# Altium footprint library Mechanical Components.PcbLib: 46 footprints (part 1 of 3)
Each footprint in its own frame and in the unit in brackets; x right, y up, seen from the top. Pads: shape width x height; smd on the part's side, far side on the other; paste and mask are expansions set on the pad; w line width, h text height; cw(c..) or ccw(c..) is an arc to the next point about the centre after c.
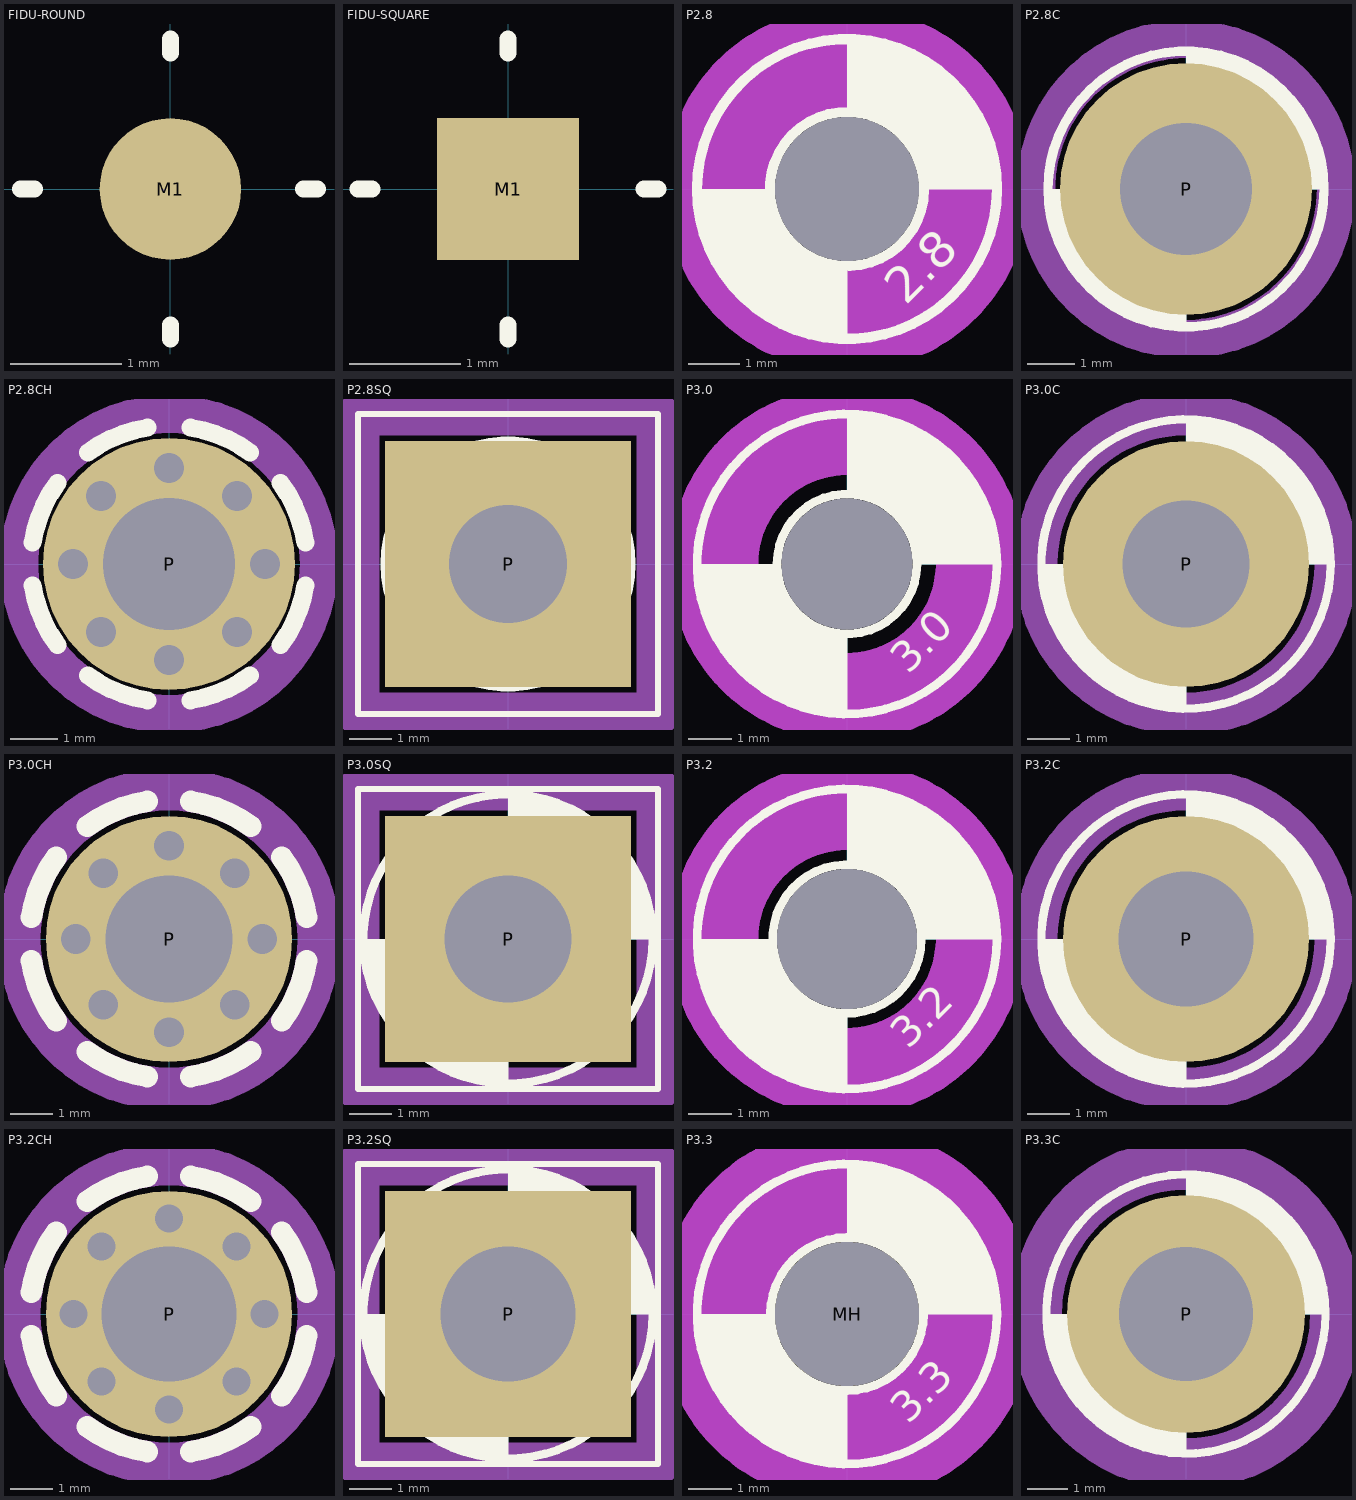
[diagram p0: the footprints below, top view; thin cyan lines are the x and y axes]

## FIDU-ROUND [mil] "Fiducials"
pads (1):
  round 50 smd: M1(0,0)
Top Overlay:
  lines w6: -53,0 -48,0 ; 0,-53 0,-48 ; 0,48 0,53 ; 47,0 52,0

## FIDU-SQUARE [mil] "Fiducials"
pads (1):
  rect 50x50 smd: M1(0,0)
Top Overlay:
  lines w6: -53,0 -48,0 ; 0,-53 0,-48 ; 0,48 0,53 ; 48,0 53,0

## P2.8 [mm] "MOUNTING HOLE 2.8 mm with drill center"
pads (1):
  round 0 hole 2.8 unplated: MH(0,0)
Top Overlay:
  circle w0.2: c0,0 r2.921
  circle w0.2: c0,0 r1.5
  region: 0,1.5 0.147,1.493 0.435,1.435 0.707,1.323 0.952,1.16 1.16,0.952 1.323,0.707 1.435,0.435 1.493,0.147 1.5,0 2.921,0 2.921,0.191 2.871,0.571 2.772,0.941 2.625,1.295 2.434,1.626 2.201,1.93 1.93,2.201 1.626,2.434 1.295,2.625 0.941,2.772 0.571,2.871 0.191,2.921 0,2.921
  region: 0,-2.921 -0.191,-2.921 -0.571,-2.871 -0.941,-2.772 -1.295,-2.625 -1.626,-2.434 -1.93,-2.201 -2.201,-1.93 -2.434,-1.626 -2.625,-1.295 -2.772,-0.941 -2.871,-0.571 -2.921,-0.191 -2.921,0 -1.5,0 -1.493,-0.147 -1.435,-0.435 -1.323,-0.707 -1.16,-0.952 -0.952,-1.16 -0.707,-1.323 -0.435,-1.435 -0.147,-1.493 0,-1.5
  text "2.8" at 1.143,-2.286 h0.7
Bottom Overlay:
  circle w0.2: c0,0 r1.5
  circle w0.2: c0,0 r2.921
  region: 0,-2.921 -0.191,-2.921 -0.571,-2.871 -0.941,-2.772 -1.295,-2.625 -1.626,-2.434 -1.93,-2.201 -2.201,-1.93 -2.434,-1.626 -2.625,-1.295 -2.772,-0.941 -2.871,-0.571 -2.921,-0.191 -2.921,0 -1.5,0 -1.493,-0.147 -1.435,-0.435 -1.323,-0.707 -1.16,-0.952 -0.952,-1.16 -0.707,-1.323 -0.435,-1.435 -0.147,-1.493 0,-1.5
  region: 0,1.5 0.147,1.493 0.435,1.435 0.707,1.323 0.952,1.16 1.16,0.952 1.323,0.707 1.435,0.435 1.493,0.147 1.5,0 2.921,0 2.921,0.191 2.871,0.571 2.772,0.941 2.625,1.295 2.434,1.626 2.201,1.93 1.93,2.201 1.626,2.434 1.295,2.625 0.941,2.772 0.571,2.871 0.191,2.921 0,2.921
Keep-Out Layer:
  circle w2.032: c0,0 r2.54
Mechanical 1:
  circle w2.032: c0,0 r2.54

## P2.8C [mil] "MOUNTING PAD 2.8 mm, round, 5.3 mm Diameter"
pads (1):
  round 210 hole 110.24: P(0,0)
Top Overlay:
  circle w7.87: c0,0 r59.06
  circle w7.87: c0,0 r115
  region: 0,-115 -7.54,-115 -22.48,-113.03 -37.04,-109.13 -50.97,-103.36 -64.03,-95.82 -75.99,-86.65 -86.65,-75.99 -95.82,-64.03 -103.36,-50.97 -109.13,-37.04 -113.03,-22.48 -115,-7.54 -115,0 -59.06,0 -58.77,-5.79 -56.51,-17.14 -52.08,-27.84 -45.65,-37.46 -37.46,-45.65 -27.84,-52.08 -17.14,-56.51 -5.79,-58.77 0,-59.06
  region: 0,59.06 5.79,58.77 17.14,56.51 27.84,52.08 37.46,45.65 45.65,37.46 52.08,27.84 56.51,17.14 58.77,5.79 59.06,0 115,0 115,7.54 113.03,22.48 109.13,37.04 103.36,50.97 95.82,64.03 86.65,75.99 75.99,86.65 64.03,95.82 50.97,103.36 37.04,109.13 22.48,113.03 7.54,115 0,115
  text "2.8" at 45,-90 h27.56
Bottom Overlay:
  circle w7.87: c0,0 r115
  circle w7.87: c0,0 r59.06
  region: 0,59.06 5.79,58.77 17.14,56.51 27.84,52.08 37.46,45.65 45.65,37.46 52.08,27.84 56.51,17.14 58.77,5.79 59.06,0 115,0 115,7.54 113.03,22.48 109.13,37.04 103.36,50.97 95.82,64.03 86.65,75.99 75.99,86.65 64.03,95.82 50.97,103.36 37.04,109.13 22.48,113.03 7.54,115 0,115
  region: 0,-115 -7.54,-115 -22.48,-113.03 -37.04,-109.13 -50.97,-103.36 -64.03,-95.82 -75.99,-86.65 -86.65,-75.99 -95.82,-64.03 -103.36,-50.97 -109.13,-37.04 -113.03,-22.48 -115,-7.54 -115,0 -59.06,0 -58.77,-5.79 -56.51,-17.14 -52.08,-27.84 -45.65,-37.46 -37.46,-45.65 -27.84,-52.08 -17.14,-56.51 -5.79,-58.77 0,-59.06
Mechanical 1:
  circle w32: c0,0 r125

## P2.8CH [mil] "MOUNTING PAD 2.8 mm, round, 5.3 mm Diameter; with Holes around it"
pads (9):
  round 0 hole 25 mask-50: P(-80,0) P(-56.57,-56.57) P(-56.57,56.57) P(0,-80) P(0,80) P(56.57,-56.57) P(56.57,56.57) P(80,0)
  round 210 hole 110.24: P(0,0)
Top Overlay:
  lines w15: -113.58,-17.99 ccw(c0,0) -93.04,-67.6 ; -113.58,17.99 cw(c0,0) -93.04,67.6 ; -67.6,-93.04 ccw(c0,0) -17.99,-113.58 ; -67.6,93.04 cw(c0,0) -17.99,113.58 ; 17.99,-113.58 ccw(c0,0) 67.6,-93.04 ; 17.99,113.58 cw(c0,0) 67.6,93.04 ; 93.04,-67.6 ccw(c0,0) 113.58,-17.99 ; 93.04,67.6 cw(c0,0) 113.58,17.99
Bottom Overlay:
  lines w15: -113.58,-17.99 ccw(c0,0) -93.04,-67.6 ; -113.58,17.99 cw(c0,0) -93.04,67.6 ; -67.6,-93.04 ccw(c0,0) -17.99,-113.58 ; -67.6,93.04 cw(c0,0) -17.99,113.58 ; 17.99,-113.58 ccw(c0,0) 67.6,-93.04 ; 17.99,113.58 cw(c0,0) 67.6,93.04 ; 93.04,-67.6 ccw(c0,0) 113.58,-17.99 ; 93.04,67.6 cw(c0,0) 113.58,17.99
Mechanical 1:
  circle w32: c0,0 r125

## P2.8SQ [mil] "MOUNTING PAD 2.8 mm, square, 5.8x5.8 mm"
pads (1):
  rect 230x230 hole 110.24: P(0,0)
Top Overlay:
  circle w7.87: c0,0 r115
  circle w7.87: c0,0 r59.06
  region: 0,59.06 5.79,58.77 17.14,56.51 27.84,52.08 37.46,45.65 45.65,37.46 52.08,27.84 56.51,17.14 58.77,5.79 59.06,0 115,0 115,7.54 113.03,22.48 109.13,37.04 103.36,50.97 95.82,64.03 86.65,75.99 75.99,86.65 64.03,95.82 50.97,103.36 37.04,109.13 22.48,113.03 7.54,115 0,115
  region: 0,-115 -7.54,-115 -22.48,-113.03 -37.04,-109.13 -50.97,-103.36 -64.03,-95.82 -75.99,-86.65 -86.65,-75.99 -95.82,-64.03 -103.36,-50.97 -109.13,-37.04 -113.03,-22.48 -115,-7.54 -115,0 -59.06,0 -58.77,-5.79 -56.51,-17.14 -52.08,-27.84 -45.65,-37.46 -37.46,-45.65 -27.84,-52.08 -17.14,-56.51 -5.79,-58.77 0,-59.06
  lines w6: -140,-140 -140,140 140,140 140,-140 -140,-140
  text "2.8" at 45,-90 h27.56
Bottom Overlay:
  circle w7.87: c0,0 r59.06
  circle w7.87: c0,0 r115
  region: 0,-115 -7.54,-115 -22.48,-113.03 -37.04,-109.13 -50.97,-103.36 -64.03,-95.82 -75.99,-86.65 -86.65,-75.99 -95.82,-64.03 -103.36,-50.97 -109.13,-37.04 -113.03,-22.48 -115,-7.54 -115,0 -59.06,0 -58.77,-5.79 -56.51,-17.14 -52.08,-27.84 -45.65,-37.46 -37.46,-45.65 -27.84,-52.08 -17.14,-56.51 -5.79,-58.77 0,-59.06
  region: 0,59.06 5.79,58.77 17.14,56.51 27.84,52.08 37.46,45.65 45.65,37.46 52.08,27.84 56.51,17.14 58.77,5.79 59.06,0 115,0 115,7.54 113.03,22.48 109.13,37.04 103.36,50.97 95.82,64.03 86.65,75.99 75.99,86.65 64.03,95.82 50.97,103.36 37.04,109.13 22.48,113.03 7.54,115 0,115
  lines w6: -140,-140 140,-140 140,140 -140,140 -140,-140
Mechanical 1:
  lines w40: -140,-140 140,-140 140,140 -140,140 -140,-140

## P3.0 [mm] "MOUNTING HOLE 3.0 mm with drill center"
pads (1):
  rect 0x0 hole 3 unplated: MH(0,0)
Top Overlay:
  circle w0.2: c0,0 r1.6
  circle w0.2: c0,0 r3.429
  region: 0,-3.429 -0.225,-3.429 -0.67,-3.37 -1.105,-3.254 -1.52,-3.082 -1.909,-2.857 -2.266,-2.584 -2.584,-2.266 -2.857,-1.909 -3.082,-1.52 -3.254,-1.105 -3.37,-0.67 -3.429,-0.225 -3.429,0 -1.6,0 -1.592,-0.157 -1.531,-0.464 -1.411,-0.754 -1.237,-1.015 -1.015,-1.237 -0.754,-1.411 -0.464,-1.531 -0.157,-1.592 0,-1.6
  region: 0,1.6 0.157,1.592 0.464,1.531 0.754,1.411 1.015,1.237 1.237,1.015 1.411,0.754 1.531,0.464 1.592,0.157 1.6,0 3.429,0 3.429,0.225 3.37,0.67 3.254,1.105 3.082,1.52 2.857,1.909 2.584,2.266 2.266,2.584 1.909,2.857 1.52,3.082 1.105,3.254 0.67,3.37 0.225,3.429 0,3.429
  text "3.0" at 1.397,-2.54 h0.7
Bottom Overlay:
  circle w0.2: c0,0 r3.429
  circle w0.2: c0,0 r1.6
  region: 0,1.6 0.157,1.592 0.464,1.531 0.754,1.411 1.015,1.237 1.237,1.015 1.411,0.754 1.531,0.464 1.592,0.157 1.6,0 3.429,0 3.429,0.225 3.37,0.67 3.254,1.105 3.082,1.52 2.857,1.909 2.584,2.266 2.266,2.584 1.909,2.857 1.52,3.082 1.105,3.254 0.67,3.37 0.225,3.429 0,3.429
  region: 0,-3.429 -0.225,-3.429 -0.67,-3.37 -1.105,-3.254 -1.52,-3.082 -1.909,-2.857 -2.266,-2.584 -2.584,-2.266 -2.857,-1.909 -3.082,-1.52 -3.254,-1.105 -3.37,-0.67 -3.429,-0.225 -3.429,0 -1.6,0 -1.592,-0.157 -1.531,-0.464 -1.411,-0.754 -1.237,-1.015 -1.015,-1.237 -0.754,-1.411 -0.464,-1.531 -0.157,-1.592 0,-1.6
Keep-Out Layer:
  circle w2.032: c0,0 r3.048
Mechanical 1:
  circle w2.032: c0,0 r3.048

## P3.0C [mil] "MOUNTING PAD 3.0 mm, round, 5.8 mm Diameter"
pads (1):
  round 230 hole 118.11: P(0,0)
Top Overlay:
  circle w7.87: c0,0 r135
  circle w7.87: c0,0 r62.99
  region: 0,62.99 6.17,62.69 18.29,60.28 29.69,55.55 39.96,48.69 48.69,39.96 55.55,29.69 60.28,18.29 62.69,6.17 62.99,0 135,0 135,8.85 132.69,26.39 128.11,43.49 121.34,59.84 112.49,75.16 101.72,89.2 89.2,101.72 75.16,112.49 59.84,121.34 43.49,128.11 26.39,132.69 8.85,135 0,135
  region: 0,-135 -8.85,-135 -26.39,-132.69 -43.49,-128.11 -59.84,-121.34 -75.16,-112.49 -89.2,-101.72 -101.72,-89.2 -112.49,-75.16 -121.34,-59.84 -128.11,-43.49 -132.69,-26.39 -135,-8.85 -135,0 -62.99,0 -62.69,-6.17 -60.28,-18.29 -55.55,-29.69 -48.69,-39.96 -39.96,-48.69 -29.69,-55.55 -18.29,-60.28 -6.17,-62.69 0,-62.99
  text "3.0" at 55,-100 h27.56
Bottom Overlay:
  circle w7.87: c0,0 r62.99
  circle w7.87: c0,0 r135
  region: 0,-135 -8.85,-135 -26.39,-132.69 -43.49,-128.11 -59.84,-121.34 -75.16,-112.49 -89.2,-101.72 -101.72,-89.2 -112.49,-75.16 -121.34,-59.84 -128.11,-43.49 -132.69,-26.39 -135,-8.85 -135,0 -62.99,0 -62.69,-6.17 -60.28,-18.29 -55.55,-29.69 -48.69,-39.96 -39.96,-48.69 -29.69,-55.55 -18.29,-60.28 -6.17,-62.69 0,-62.99
  region: 0,62.99 6.17,62.69 18.29,60.28 29.69,55.55 39.96,48.69 48.69,39.96 55.55,29.69 60.28,18.29 62.69,6.17 62.99,0 135,0 135,8.85 132.69,26.39 128.11,43.49 121.34,59.84 112.49,75.16 101.72,89.2 89.2,101.72 75.16,112.49 59.84,121.34 43.49,128.11 26.39,132.69 8.85,135 0,135
Mechanical 1:
  circle w40: c0,0 r140

## P3.0CH [mil] "MOUNTING PAD 3.0 mm, round, 5.8 mm Diameter; with Holes around it"
pads (1):
  round 230 hole 118.11: P(0,0)
via 61.52,-61.52 diameter 39.37 hole 27.56
via 0,-87 diameter 39.37 hole 27.56
via -61.52,-61.52 diameter 39.37 hole 27.56
via -87,0 diameter 39.37 hole 27.56
via -61.52,61.52 diameter 39.37 hole 27.56
via 0,87 diameter 39.37 hole 27.56
via 61.52,61.52 diameter 39.37 hole 27.56
via 87,0 diameter 39.37 hole 27.56
Top Overlay:
  lines w20: -128.4,-20.34 ccw(c0,0) -105.17,-76.41 ; -128.4,20.34 cw(c0,0) -105.17,76.41 ; -76.41,-105.17 ccw(c0,0) -20.34,-128.4 ; -76.41,105.17 cw(c0,0) -20.34,128.4 ; 20.34,-128.4 ccw(c0,0) 76.41,-105.17 ; 20.34,128.4 cw(c0,0) 76.41,105.17 ; 105.17,-76.41 ccw(c0,0) 128.4,-20.34 ; 105.17,76.41 cw(c0,0) 128.4,20.34
Bottom Overlay:
  lines w20: -128.4,-20.34 ccw(c0,0) -105.17,-76.41 ; -128.4,20.34 cw(c0,0) -105.17,76.41 ; -76.41,-105.17 ccw(c0,0) -20.34,-128.4 ; -76.41,105.17 cw(c0,0) -20.34,128.4 ; 20.34,-128.4 ccw(c0,0) 76.41,-105.17 ; 20.34,128.4 cw(c0,0) 76.41,105.17 ; 105.17,-76.41 ccw(c0,0) 128.4,-20.34 ; 105.17,76.41 cw(c0,0) 128.4,20.34
Mechanical 1:
  circle w40: c0,0 r140

## P3.0SQ [mil] "MOUNTING PAD 3.0 mm, square, 5.8x5.8 mm"
pads (1):
  rect 230x230 hole 118.11: P(0,0)
Top Overlay:
  circle w7.87: c0,0 r62.99
  circle w7.87: c0,0 r135
  region: 0,-135 -8.85,-135 -26.39,-132.69 -43.49,-128.11 -59.84,-121.34 -75.16,-112.49 -89.2,-101.72 -101.72,-89.2 -112.49,-75.16 -121.34,-59.84 -128.11,-43.49 -132.69,-26.39 -135,-8.85 -135,0 -62.99,0 -62.69,-6.17 -60.28,-18.29 -55.55,-29.69 -48.69,-39.96 -39.96,-48.69 -29.69,-55.55 -18.29,-60.28 -6.17,-62.69 0,-62.99
  region: 0,62.99 6.17,62.69 18.29,60.28 29.69,55.55 39.96,48.69 48.69,39.96 55.55,29.69 60.28,18.29 62.69,6.17 62.99,0 135,0 135,8.85 132.69,26.39 128.11,43.49 121.34,59.84 112.49,75.16 101.72,89.2 89.2,101.72 75.16,112.49 59.84,121.34 43.49,128.11 26.39,132.69 8.85,135 0,135
  lines w6: -140,-140 140,-140 140,140 -140,140 -140,-140
  text "3.0" at 55,-100 h27.56
Bottom Overlay:
  circle w7.87: c0,0 r135
  circle w7.87: c0,0 r62.99
  region: 0,62.99 6.17,62.69 18.29,60.28 29.69,55.55 39.96,48.69 48.69,39.96 55.55,29.69 60.28,18.29 62.69,6.17 62.99,0 135,0 135,8.85 132.69,26.39 128.11,43.49 121.34,59.84 112.49,75.16 101.72,89.2 89.2,101.72 75.16,112.49 59.84,121.34 43.49,128.11 26.39,132.69 8.85,135 0,135
  region: 0,-135 -8.85,-135 -26.39,-132.69 -43.49,-128.11 -59.84,-121.34 -75.16,-112.49 -89.2,-101.72 -101.72,-89.2 -112.49,-75.16 -121.34,-59.84 -128.11,-43.49 -132.69,-26.39 -135,-8.85 -135,0 -62.99,0 -62.69,-6.17 -60.28,-18.29 -55.55,-29.69 -48.69,-39.96 -39.96,-48.69 -29.69,-55.55 -18.29,-60.28 -6.17,-62.69 0,-62.99
  lines w6: -140,-140 -140,140 140,140 140,-140 -140,-140
Mechanical 1:
  lines w40: -140,-140 -140,140 140,140 140,-140 -140,-140

## P3.2 [mm] "MOUNTING HOLE 3.2 mm with drill center"
pads (1):
  round 0 hole 3.2 unplated: MH(0,0)
Top Overlay:
  circle w0.2: c0,0 r1.7
  circle w0.2: c0,0 r3.429
  region: 0,-3.429 -0.225,-3.429 -0.67,-3.37 -1.105,-3.254 -1.52,-3.082 -1.909,-2.857 -2.266,-2.584 -2.584,-2.266 -2.857,-1.909 -3.082,-1.52 -3.254,-1.105 -3.37,-0.67 -3.429,-0.225 -3.429,0 -1.7,0 -1.692,-0.167 -1.627,-0.493 -1.499,-0.801 -1.314,-1.078 -1.078,-1.314 -0.801,-1.499 -0.493,-1.627 -0.167,-1.692 0,-1.7
  region: 0,3.429 0.225,3.429 0.67,3.37 1.105,3.254 1.52,3.082 1.909,2.857 2.266,2.584 2.584,2.266 2.857,1.909 3.082,1.52 3.254,1.105 3.37,0.67 3.429,0.225 3.429,0 1.7,0 1.692,0.167 1.627,0.493 1.499,0.801 1.314,1.078 1.078,1.314 0.801,1.499 0.493,1.627 0.167,1.692 0,1.7
  text "3.2" at 1.397,-2.54 h0.7
Bottom Overlay:
  circle w0.2: c0,0 r3.429
  circle w0.2: c0,0 r1.7
  region: 0,3.429 0.225,3.429 0.67,3.37 1.105,3.254 1.52,3.082 1.909,2.857 2.266,2.584 2.584,2.266 2.857,1.909 3.082,1.52 3.254,1.105 3.37,0.67 3.429,0.225 3.429,0 1.7,0 1.692,0.167 1.627,0.493 1.499,0.801 1.314,1.078 1.078,1.314 0.801,1.499 0.493,1.627 0.167,1.692 0,1.7
  region: 0,-3.429 -0.225,-3.429 -0.67,-3.37 -1.105,-3.254 -1.52,-3.082 -1.909,-2.857 -2.266,-2.584 -2.584,-2.266 -2.857,-1.909 -3.082,-1.52 -3.254,-1.105 -3.37,-0.67 -3.429,-0.225 -3.429,0 -1.7,0 -1.692,-0.167 -1.627,-0.493 -1.499,-0.801 -1.314,-1.078 -1.078,-1.314 -0.801,-1.499 -0.493,-1.627 -0.167,-1.692 0,-1.7
Keep-Out Layer:
  circle w2.032: c0,0 r3.048
Mechanical 1:
  circle w2.032: c0,0 r3.048

## P3.2C [mil] "MOUNTING PAD 3.2 mm, round, 5.8 mm Diameter"
pads (1):
  round 230 hole 125.98: P(0,0)
Top Overlay:
  circle w7.87: c0,0 r135
  circle w7.87: c0,0 r66.93
  region: 0,135 8.85,135 26.39,132.69 43.49,128.11 59.84,121.34 75.16,112.49 89.2,101.72 101.72,89.2 112.49,75.16 121.34,59.84 128.11,43.49 132.69,26.39 135,8.85 135,0 66.93,0 66.61,6.56 64.05,19.43 59.03,31.55 51.74,42.46 42.46,51.74 31.55,59.03 19.43,64.05 6.56,66.61 0,66.93
  region: 0,-135 -8.85,-135 -26.39,-132.69 -43.49,-128.11 -59.84,-121.34 -75.16,-112.49 -89.2,-101.72 -101.72,-89.2 -112.49,-75.16 -121.34,-59.84 -128.11,-43.49 -132.69,-26.39 -135,-8.85 -135,0 -66.93,0 -66.61,-6.56 -64.05,-19.43 -59.03,-31.55 -51.74,-42.46 -42.46,-51.74 -31.55,-59.03 -19.43,-64.05 -6.56,-66.61 0,-66.93
  text "3.2" at 55,-100 h27.56
Bottom Overlay:
  circle w7.87: c0,0 r66.93
  circle w7.87: c0,0 r135
  region: 0,-135 -8.85,-135 -26.39,-132.69 -43.49,-128.11 -59.84,-121.34 -75.16,-112.49 -89.2,-101.72 -101.72,-89.2 -112.49,-75.16 -121.34,-59.84 -128.11,-43.49 -132.69,-26.39 -135,-8.85 -135,0 -66.93,0 -66.61,-6.56 -64.05,-19.43 -59.03,-31.55 -51.74,-42.46 -42.46,-51.74 -31.55,-59.03 -19.43,-64.05 -6.56,-66.61 0,-66.93
  region: 0,135 8.85,135 26.39,132.69 43.49,128.11 59.84,121.34 75.16,112.49 89.2,101.72 101.72,89.2 112.49,75.16 121.34,59.84 128.11,43.49 132.69,26.39 135,8.85 135,0 66.93,0 66.61,6.56 64.05,19.43 59.03,31.55 51.74,42.46 42.46,51.74 31.55,59.03 19.43,64.05 6.56,66.61 0,66.93
Mechanical 1:
  circle w40: c0,0 r140

## P3.2CH [mil] "MOUNTING PAD 3.2 mm, round, 5.8 mm Diameter; with Holes around it"
pads (9):
  round 0 hole 26 mask-50: P(-89,0) P(-62.93,-62.93) P(-62.93,62.93) P(0,-89) P(0,89) P(62.93,-62.93) P(62.93,62.93) P(89,0)
  round 230 hole 125.98: P(0,0)
Top Overlay:
  lines w20: -128.4,-20.34 ccw(c0,0) -105.17,-76.41 ; -128.4,20.34 cw(c0,0) -105.17,76.41 ; -76.41,-105.17 ccw(c0,0) -20.34,-128.4 ; -76.41,105.17 cw(c0,0) -20.34,128.4 ; 20.34,-128.4 ccw(c0,0) 76.41,-105.17 ; 20.34,128.4 cw(c0,0) 76.41,105.17 ; 105.17,-76.41 ccw(c0,0) 128.4,-20.34 ; 105.17,76.41 cw(c0,0) 128.4,20.34
Bottom Overlay:
  lines w20: -128.4,-20.34 ccw(c0,0) -105.17,-76.41 ; -128.4,20.34 cw(c0,0) -105.17,76.41 ; -76.41,-105.17 ccw(c0,0) -20.34,-128.4 ; -76.41,105.17 cw(c0,0) -20.34,128.4 ; 20.34,-128.4 ccw(c0,0) 76.41,-105.17 ; 20.34,128.4 cw(c0,0) 76.41,105.17 ; 105.17,-76.41 ccw(c0,0) 128.4,-20.34 ; 105.17,76.41 cw(c0,0) 128.4,20.34
Mechanical 1:
  circle w40: c0,0 r140

## P3.2SQ [mil] "MOUNTING PAD 3.2 mm, square, 5.8x5.8 mm"
pads (1):
  rect 230x230 hole 125.98: P(0,0)
Top Overlay:
  circle w7.87: c0,0 r66.93
  circle w7.87: c0,0 r135
  region: 0,-135 -8.85,-135 -26.39,-132.69 -43.49,-128.11 -59.84,-121.34 -75.16,-112.49 -89.2,-101.72 -101.72,-89.2 -112.49,-75.16 -121.34,-59.84 -128.11,-43.49 -132.69,-26.39 -135,-8.85 -135,0 -66.93,0 -66.61,-6.56 -64.05,-19.43 -59.03,-31.55 -51.74,-42.46 -42.46,-51.74 -31.55,-59.03 -19.43,-64.05 -6.56,-66.61 0,-66.93
  region: 0,135 8.85,135 26.39,132.69 43.49,128.11 59.84,121.34 75.16,112.49 89.2,101.72 101.72,89.2 112.49,75.16 121.34,59.84 128.11,43.49 132.69,26.39 135,8.85 135,0 66.93,0 66.61,6.56 64.05,19.43 59.03,31.55 51.74,42.46 42.46,51.74 31.55,59.03 19.43,64.05 6.56,66.61 0,66.93
  lines w6: -140,-140 140,-140 140,140 -140,140 -140,-140
  text "3.2" at 55,-100 h27.56
Bottom Overlay:
  circle w7.87: c0,0 r135
  circle w7.87: c0,0 r66.93
  region: 0,135 8.85,135 26.39,132.69 43.49,128.11 59.84,121.34 75.16,112.49 89.2,101.72 101.72,89.2 112.49,75.16 121.34,59.84 128.11,43.49 132.69,26.39 135,8.85 135,0 66.93,0 66.61,6.56 64.05,19.43 59.03,31.55 51.74,42.46 42.46,51.74 31.55,59.03 19.43,64.05 6.56,66.61 0,66.93
  region: 0,-135 -8.85,-135 -26.39,-132.69 -43.49,-128.11 -59.84,-121.34 -75.16,-112.49 -89.2,-101.72 -101.72,-89.2 -112.49,-75.16 -121.34,-59.84 -128.11,-43.49 -132.69,-26.39 -135,-8.85 -135,0 -66.93,0 -66.61,-6.56 -64.05,-19.43 -59.03,-31.55 -51.74,-42.46 -42.46,-51.74 -31.55,-59.03 -19.43,-64.05 -6.56,-66.61 0,-66.93
  lines w6: -140,-140 -140,140 140,140 140,-140 -140,-140
Mechanical 1:
  lines w40: -140,-140 -140,140 140,140 140,-140 -140,-140

## P3.3 [mm] "MOUNTING HOLE 3.3 mm with drill center"
pads (1):
  round 3.3 hole 3.3 unplated: MH(0,0)
Top Overlay:
  circle w0.2: c0,0 r3.429
  circle w0.2: c0,0 r1.75
  region: 0,1.75 0.172,1.742 0.508,1.675 0.825,1.543 1.11,1.353 1.353,1.11 1.543,0.825 1.675,0.508 1.742,0.172 1.75,0 3.429,0 3.429,0.225 3.37,0.67 3.254,1.105 3.082,1.52 2.857,1.909 2.584,2.266 2.266,2.584 1.909,2.857 1.52,3.082 1.105,3.254 0.67,3.37 0.225,3.429 0,3.429
  region: 0,-1.75 -0.172,-1.742 -0.508,-1.675 -0.825,-1.543 -1.11,-1.353 -1.353,-1.11 -1.543,-0.825 -1.675,-0.508 -1.742,-0.172 -1.75,0 -3.429,0 -3.429,-0.225 -3.37,-0.67 -3.254,-1.105 -3.082,-1.52 -2.857,-1.909 -2.584,-2.266 -2.266,-2.584 -1.909,-2.857 -1.52,-3.082 -1.105,-3.254 -0.67,-3.37 -0.225,-3.429 0,-3.429
  text "3.3" at 1.397,-2.54 h0.7
Bottom Overlay:
  circle w0.2: c0,0 r1.75
  circle w0.2: c0,0 r3.429
  region: 0,-1.75 -0.172,-1.742 -0.508,-1.675 -0.825,-1.543 -1.11,-1.353 -1.353,-1.11 -1.543,-0.825 -1.675,-0.508 -1.742,-0.172 -1.75,0 -3.429,0 -3.429,-0.225 -3.37,-0.67 -3.254,-1.105 -3.082,-1.52 -2.857,-1.909 -2.584,-2.266 -2.266,-2.584 -1.909,-2.857 -1.52,-3.082 -1.105,-3.254 -0.67,-3.37 -0.225,-3.429 0,-3.429
  region: 0,1.75 0.172,1.742 0.508,1.675 0.825,1.543 1.11,1.353 1.353,1.11 1.543,0.825 1.675,0.508 1.742,0.172 1.75,0 3.429,0 3.429,0.225 3.37,0.67 3.254,1.105 3.082,1.52 2.857,1.909 2.584,2.266 2.266,2.584 1.909,2.857 1.52,3.082 1.105,3.254 0.67,3.37 0.225,3.429 0,3.429
Keep-Out Layer:
  circle w2.54: c0,0 r3.048
Mechanical 1:
  circle w2.54: c0,0 r3.048

## P3.3C [mil] "MOUNTING PAD 3.3 mm, round, 5.8 mm Diameter"
pads (1):
  round 230 hole 129.92: P(0,0)
Top Overlay:
  circle w7.87: c0,0 r68.9
  circle w7.87: c0,0 r135
  region: 0,-68.9 -6.75,-68.57 -20,-65.93 -32.48,-60.76 -43.71,-53.26 -53.26,-43.71 -60.76,-32.48 -65.93,-20 -68.57,-6.75 -68.9,0 -135,0 -135,-8.85 -132.69,-26.39 -128.11,-43.49 -121.34,-59.84 -112.49,-75.16 -101.72,-89.2 -89.2,-101.72 -75.16,-112.49 -59.84,-121.34 -43.49,-128.11 -26.39,-132.69 -8.85,-135 0,-135
  region: 0,68.9 6.75,68.57 20,65.93 32.48,60.76 43.71,53.26 53.26,43.71 60.76,32.48 65.93,20 68.57,6.75 68.9,0 135,0 135,8.85 132.69,26.39 128.11,43.49 121.34,59.84 112.49,75.16 101.72,89.2 89.2,101.72 75.16,112.49 59.84,121.34 43.49,128.11 26.39,132.69 8.85,135 0,135
  text "3.3" at 55,-100 h27.56
Bottom Overlay:
  circle w7.87: c0,0 r135
  circle w7.87: c0,0 r68.9
  region: 0,68.9 6.75,68.57 20,65.93 32.48,60.76 43.71,53.26 53.26,43.71 60.76,32.48 65.93,20 68.57,6.75 68.9,0 135,0 135,8.85 132.69,26.39 128.11,43.49 121.34,59.84 112.49,75.16 101.72,89.2 89.2,101.72 75.16,112.49 59.84,121.34 43.49,128.11 26.39,132.69 8.85,135 0,135
  region: 0,-68.9 -6.75,-68.57 -20,-65.93 -32.48,-60.76 -43.71,-53.26 -53.26,-43.71 -60.76,-32.48 -65.93,-20 -68.57,-6.75 -68.9,0 -135,0 -135,-8.85 -132.69,-26.39 -128.11,-43.49 -121.34,-59.84 -112.49,-75.16 -101.72,-89.2 -89.2,-101.72 -75.16,-112.49 -59.84,-121.34 -43.49,-128.11 -26.39,-132.69 -8.85,-135 0,-135
Mechanical 1:
  circle w50: c0,0 r145